# Altium schematic symbol library Inductors Multilayer.SchLib: 2 symbols
Pins are listed as number, name and electrical type; pins without a type are passive.

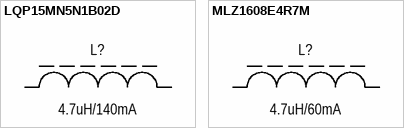
[diagram p0: symbols LQP15MN5N1B02D to MLZ1608E4R7M]

## LQP15MN5N1B02D
designator L?, comment 4.7uH/140mA
INDM 5.1nH 140mA 0402(1005); Manufacturer: TDK; Part name: LQP15MN5N1B02D; Group: Discrete; DC resistance: 700mOhm; Q/Frequency: 13/500MHz; Inductance: 4.7uH; Tolerance: ±0.1nH; Shielding: Unshielded; Type: Multilayer; Core material: Ferrite; Self resonant frequency: 6GHz; Component: Inductor Fixed; Current rating: 140mA; Package: 0402 (1005); Height: 0.45mm; Dimension: 1.00mm x 0.50mm; Operating temperature: -40°C +85°C; Mounting type: Surface mount
footprint INDM1005L (Footprint not found)
footprint INDM1005M (Footprint not found)
footprint INDM1005S (Footprint not found)
pins: 1, 2

## MLZ1608E4R7M
designator L?, comment 4.7uH/60mA
INDM 4.7uH 60mA 0603(1608); Manufacturer: TDK; Part name: MLZ1608E4R7M; Group: Discrete; DC resistance: 650mOhm; Tolerance: ±20%; Shielding: Shielded; Type: Multilayer; Core material: Ferrite; Component: Inductor Fixed; Current rating: 60mA; Package: 0603 (1608); Height: 0.95mm; Dimension: 1.60mm x 0.80mm; Operating temperature: -55°C +125°C; Inductance: 4.7uH; Mounting type: Surface mount
footprint INDM1608L (Footprint not found)
footprint INDM1608M (Footprint not found)
footprint INDM1608S (Footprint not found)
pins: 1, 2